# Altium schematic symbol library 1814935.SchLib: 1 symbol
Pins are listed as number, name and electrical type; pins without a type are passive.

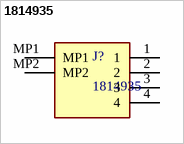
[diagram p0: symbol 1814935]

## 1814935
designator J?
Pluggable Terminal Blocks PTSM 0,5/ 4-HH0-2,5- SMD WH R32
footprint 1814935
pins: 1, 2, 3, 4, MP1, MP2